# Altium footprint library 2020-10-30_00-15-48.PcbLib: 3 footprints
Each footprint in its own frame and in the unit in brackets; x right, y up, seen from the top. Pads: shape width x height; smd on the part's side, far side on the other; paste and mask are expansions set on the pad; w line width, h text height; cw(c..) or ccw(c..) is an arc to the next point about the centre after c.
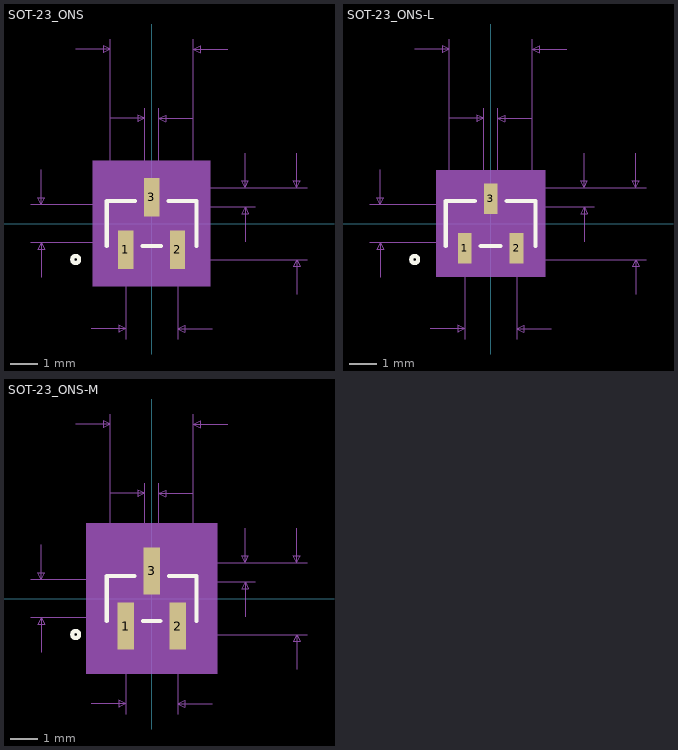
[diagram p0: the footprints below, top view; thin cyan lines are the x and y axes]

## SOT-23_ONS [mil]
pads (3):
  rect 22x56 smd paste+0 mask+0: 1(-37.5,-38) 2(37.5,-38) 3(0,38)
Top Overlay:
  circle w6: c-110,-52 r5
  lines w6: -65,-32.5 -65,32.5 -24.1,32.5 ; -13.4,-32.5 13.4,-32.5 ; 24.1,32.5 65,32.5 65,-32.5
Mechanical 5:
  region: -85,91 85,91 85,-91 -85,-91
Mechanical 7:
  lines w1: -175,-27.5 0,-27.5 ; -175,27.5 0,27.5 ; -160,-77.5 -160,-27.5 ; -160,77.5 -160,27.5 ; -110,252 -60,252 ; -87.5,-152 -37.5,-152 ; -60,27.5 -60,267 ; -60,152 -10,152 ; -37.5,-167 -37.5,-52 ; -10,52 -10,167 ; 0,-52 225,-52 ; 0,24 150,24 ; 10,52 10,167 ; 37.5,-167 37.5,-52 ; 60,27.5 60,267 ; 60,152 10,152 ; 87.5,-152 37.5,-152 ; 110,252 60,252 ; 135,-26 135,24 ; 135,102 135,52 ; 150,52 0,52 225,52 ; 210,-102 210,-52 ; 210,102 210,52 ; -160,-27.5 -165,-37.5 -155,-37.5 -160,-27.5 ; -160,27.5 -165,37.5 -155,37.5 -160,27.5 ; -60,252 -70,257 -70,247 -60,252 ; -37.5,-152 -47.5,-147 -47.5,-157 -37.5,-152 ; -10,152 -20,157 -20,147 -10,152 ; 10,152 20,157 20,147 10,152 ; 37.5,-152 47.5,-147 47.5,-157 37.5,-152 ; 60,252 70,257 70,247 60,252 ; 135,24 130,14 140,14 135,24 ; 135,52 130,62 140,62 135,52 ; 210,-52 205,-62 215,-62 210,-52 ; 210,52 205,62 215,62 210,52
  text "Top Padstyle: RX22Y56D0T" at -300,-316 h50
  text "Bottom Padstyle: RX22Y56D0T" at -337.5,-391 h50
  text "Alt 1 Padstyle: OX60Y90D30P" at -337.5,-466 h50
  text "Alt 2 Padstyle: OX90Y60D30P" at -337.5,-541 h50
  text "0.104in/2.642mm" at 230,-12.5 h25
  text "0.028in/0.711mm" at 155,25.5 h25
  text "0.075in/1.905mm" at -93.75,-197 h25
  text "0.02in/0.508mm" at -87.5,172 h25
  text "0.12in/3.048mm" at -87.5,272 h25
  text "0.055in/1.397mm" at -367.5,-12.5 h25
Mechanical 13:
  circle w0: c-50,-17.5 r5
  lines w1: -60,-27.5 60,-27.5 60,27.5 -60,27.5 -60,-27.5 ; -47.5,-52 -47.5,-27.5 -27.5,-27.5 -27.5,-52 -47.5,-52 ; -10,27.5 10,27.5 10,52 -10,52 -10,27.5 ; 27.5,-52 27.5,-27.5 47.5,-27.5 47.5,-52 27.5,-52
Mechanical 15:
  region: -70,-37.5 -70,37.5 -21,37.5 -21,76 21,76 21,37.5 70,37.5 70,-37.5 58.5,-37.5 58.5,-76 -58.5,-76 -58.5,-37.5
  region: 60,-27.5 -60,-27.5 -60,27.5 60,27.5
  lines w6: -70,-37.5 -70,37.5 -21,37.5 -21,76 21,76 21,37.5 70,37.5 70,-37.5 58.5,-37.5 58.5,-76 -58.5,-76 -58.5,-37.5 -70,-37.5
3D body: height 10, standoff 0, extent 0,0 10,10

## SOT-23_ONS-L [mil]
pads (3):
  rect 20x44 smd paste+0 mask+0: 1(-37.5,-36) 2(37.5,-36) 3(0,36)
Top Overlay:
  circle w6: c-110,-52 r5
  lines w6: -65,-32.5 -65,32.5 -23.1,32.5 ; -14.4,-32.5 14.4,-32.5 ; 23.1,32.5 65,32.5 65,-32.5
Mechanical 5:
  region: -79,77 79,77 79,-77 -79,-77
Mechanical 7:
  lines w1: -175,-27.5 0,-27.5 ; -175,27.5 0,27.5 ; -160,-77.5 -160,-27.5 ; -160,77.5 -160,27.5 ; -110,252 -60,252 ; -87.5,-152 -37.5,-152 ; -60,27.5 -60,267 ; -60,152 -10,152 ; -37.5,-167 -37.5,-52 ; -10,52 -10,167 ; 0,-52 225,-52 ; 0,24 150,24 ; 10,52 10,167 ; 37.5,-167 37.5,-52 ; 60,27.5 60,267 ; 60,152 10,152 ; 87.5,-152 37.5,-152 ; 110,252 60,252 ; 135,-26 135,24 ; 135,102 135,52 ; 150,52 0,52 225,52 ; 210,-102 210,-52 ; 210,102 210,52 ; -160,-27.5 -165,-37.5 -155,-37.5 -160,-27.5 ; -160,27.5 -165,37.5 -155,37.5 -160,27.5 ; -60,252 -70,257 -70,247 -60,252 ; -37.5,-152 -47.5,-147 -47.5,-157 -37.5,-152 ; -10,152 -20,157 -20,147 -10,152 ; 10,152 20,157 20,147 10,152 ; 37.5,-152 47.5,-147 47.5,-157 37.5,-152 ; 60,252 70,257 70,247 60,252 ; 135,24 130,14 140,14 135,24 ; 135,52 130,62 140,62 135,52 ; 210,-52 205,-62 215,-62 210,-52 ; 210,52 205,62 215,62 210,52
  text "Top Padstyle: RX20Y44D0T" at -300,-308 h50
  text "Bottom Padstyle: RX20Y44D0T" at -337.5,-383 h50
  text "Alt 1 Padstyle: OX60Y90D30P" at -337.5,-458 h50
  text "Alt 2 Padstyle: OX90Y60D30P" at -337.5,-533 h50
  text "0.104in/2.642mm" at 230,-12.5 h25
  text "0.028in/0.711mm" at 155,25.5 h25
  text "0.075in/1.905mm" at -93.75,-197 h25
  text "0.02in/0.508mm" at -87.5,172 h25
  text "0.12in/3.048mm" at -87.5,272 h25
  text "0.055in/1.397mm" at -367.5,-12.5 h25
Mechanical 13:
  circle w0: c-50,-17.5 r5
  lines w1: -60,-27.5 60,-27.5 60,27.5 -60,27.5 -60,-27.5 ; -47.5,-52 -47.5,-27.5 -27.5,-27.5 -27.5,-52 -47.5,-52 ; -10,27.5 10,27.5 10,52 -10,52 -10,27.5 ; 27.5,-52 27.5,-27.5 47.5,-27.5 47.5,-52 27.5,-52
Mechanical 15:
  region: -64,-31.5 -64,31.5 -14,31.5 -14,62 14,62 14,31.5 64,31.5 64,-31.5 51.5,-31.5 51.5,-62 -51.5,-62 -51.5,-31.5
  region: 60,-27.5 -60,-27.5 -60,27.5 60,27.5
  lines w6: -64,-31.5 -64,31.5 -14,31.5 -14,62 14,62 14,31.5 64,31.5 64,-31.5 51.5,-31.5 51.5,-62 -51.5,-62 -51.5,-31.5 -64,-31.5
3D body: height 10, standoff 0, extent 0,0 10,10

## SOT-23_ONS-M [mil]
pads (3):
  rect 24x68 smd paste+0 mask+0: 1(-37.5,-40) 2(37.5,-40) 3(0,40)
Top Overlay:
  circle w6: c-110,-52 r5
  lines w6: -65,-32.5 -65,32.5 -25.1,32.5 ; -12.4,-32.5 12.4,-32.5 ; 25.1,32.5 65,32.5 65,-32.5
Mechanical 5:
  region: -95,109 95,109 95,-109 -95,-109
Mechanical 7:
  lines w1: -175,-27.5 0,-27.5 ; -175,27.5 0,27.5 ; -160,-77.5 -160,-27.5 ; -160,77.5 -160,27.5 ; -110,252 -60,252 ; -87.5,-152 -37.5,-152 ; -60,27.5 -60,267 ; -60,152 -10,152 ; -37.5,-167 -37.5,-52 ; -10,52 -10,167 ; 0,-52 225,-52 ; 0,24 150,24 ; 10,52 10,167 ; 37.5,-167 37.5,-52 ; 60,27.5 60,267 ; 60,152 10,152 ; 87.5,-152 37.5,-152 ; 110,252 60,252 ; 135,-26 135,24 ; 135,102 135,52 ; 150,52 0,52 225,52 ; 210,-102 210,-52 ; 210,102 210,52 ; -160,-27.5 -165,-37.5 -155,-37.5 -160,-27.5 ; -160,27.5 -165,37.5 -155,37.5 -160,27.5 ; -60,252 -70,257 -70,247 -60,252 ; -37.5,-152 -47.5,-147 -47.5,-157 -37.5,-152 ; -10,152 -20,157 -20,147 -10,152 ; 10,152 20,157 20,147 10,152 ; 37.5,-152 47.5,-147 47.5,-157 37.5,-152 ; 60,252 70,257 70,247 60,252 ; 135,24 130,14 140,14 135,24 ; 135,52 130,62 140,62 135,52 ; 210,-52 205,-62 215,-62 210,-52 ; 210,52 205,62 215,62 210,52
  text "Top Padstyle: RX24Y68D0T" at -300,-324 h50
  text "Bottom Padstyle: RX24Y68D0T" at -337.5,-399 h50
  text "Alt 1 Padstyle: OX60Y90D30P" at -337.5,-474 h50
  text "Alt 2 Padstyle: OX90Y60D30P" at -337.5,-549 h50
  text "0.104in/2.642mm" at 230,-12.5 h25
  text "0.028in/0.711mm" at 155,25.5 h25
  text "0.075in/1.905mm" at -93.75,-197 h25
  text "0.02in/0.508mm" at -87.5,172 h25
  text "0.12in/3.048mm" at -87.5,272 h25
  text "0.055in/1.397mm" at -367.5,-12.5 h25
Mechanical 13:
  circle w0: c-50,-17.5 r5
  lines w1: -60,-27.5 60,-27.5 60,27.5 -60,27.5 -60,-27.5 ; -47.5,-52 -47.5,-27.5 -27.5,-27.5 -27.5,-52 -47.5,-52 ; -10,27.5 10,27.5 10,52 -10,52 -10,27.5 ; 27.5,-52 27.5,-27.5 47.5,-27.5 47.5,-52 27.5,-52
Mechanical 15:
  region: -80,-47.5 -80,47.5 -32,47.5 -32,94 32,94 32,47.5 80,47.5 80,-47.5 69.5,-47.5 69.5,-94 -69.5,-94 -69.5,-47.5
  region: 60,-27.5 -60,-27.5 -60,27.5 60,27.5
  lines w6: -80,-47.5 -80,47.5 -32,47.5 -32,94 32,94 32,47.5 80,47.5 80,-47.5 69.5,-47.5 69.5,-94 -69.5,-94 -69.5,-47.5 -80,-47.5
3D body: height 10, standoff 0, extent 0,0 10,10